# Altium schematic symbol library LABLIB.SchLib: 136 symbols (part 2 of 2)
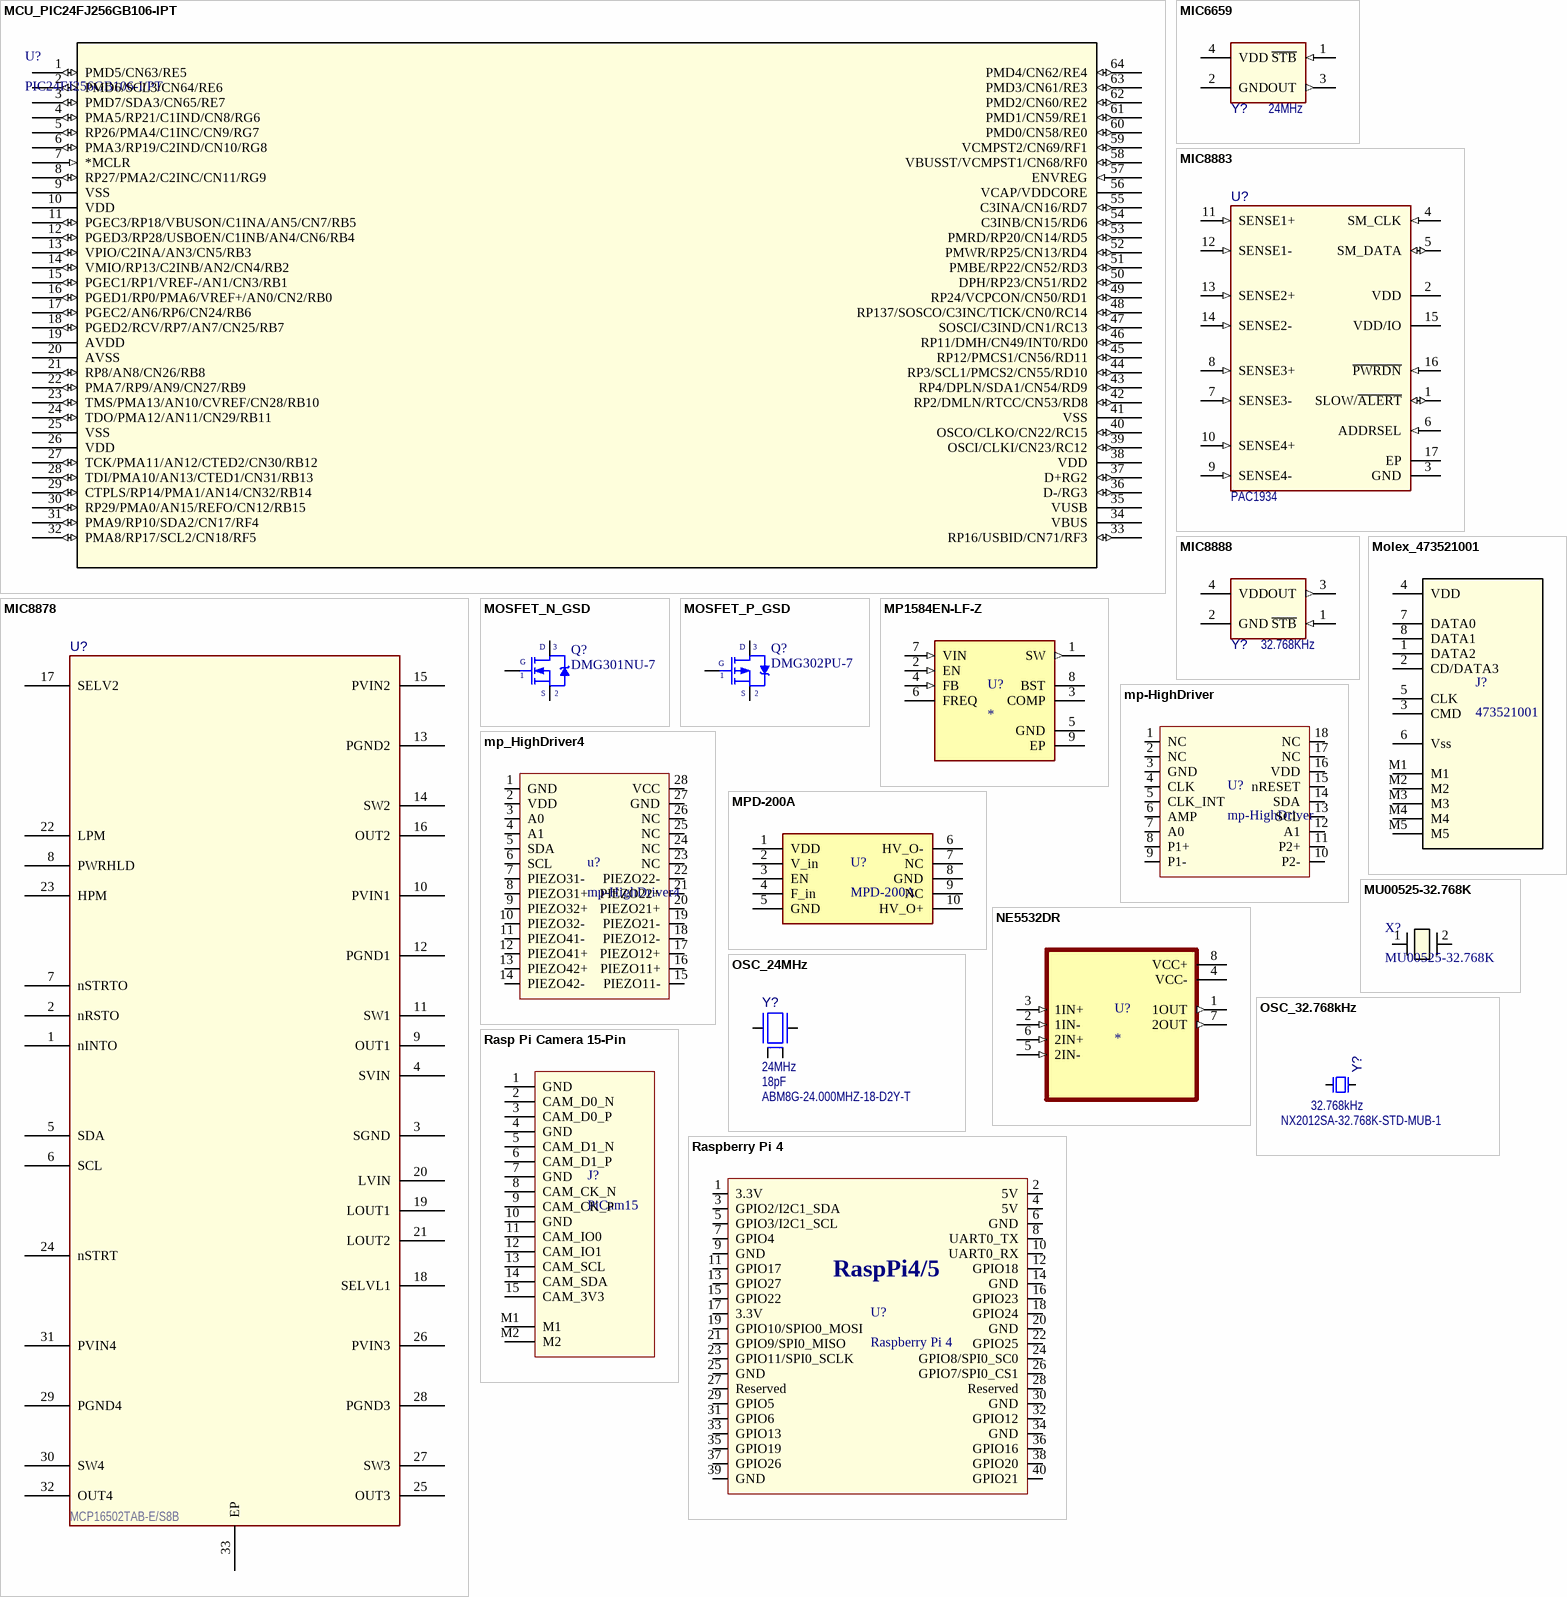
[diagram p9: symbols MCU_PIC24FJ256GB106-IPT to Raspberry Pi 4]

## MIC6659
designator Y?, comment value 24MHz  (hidden comment: DSC10xx DFN-4)
Manufacturer 1: Microchip Technology; Manufacturer Part Number 1: DSC1001DI5-024.0000T; MCHP-ID: MIC6659; Description_: MCHP CLOCK OSCILLATOR SINGLE 24MHz DSC1001DI5-024.0000 SMD-2520; Dev Tools Status: Design; Owner: Maurizio Gavardoni; Populated: YES; Revision: A; Symbol: DSC10xx DFN-4; Status: MCL Design; ComponentLink1Description: SVN Datasheet; ComponentLink2Description: Local Datasheet; ComponentLink3URL: C:\ALTIUM_WORK\00001_MCHP-CDB\Library\LibraryRefs\DSC10xx DFN-4.SchLib; ComponentLink3Description: Open Symbol; ComponentLink4URL: C:\ALTIUM_WORK\00001_MCHP-CDB\Library\Footprints\DFN-4_2.5x2.PcbLib; ComponentLink4Description: Open Footprint; ComponentLink5Description: Open Footprint 2; ComponentLink6Description: Open Footprint 3; ComponentLink7Description: Open Footprint 4; Category: MCHP-Clock/Timing; Type: Oscillator; Supplier 1: Digi-Key; Supplier Part Number 1: DSC1001DI5-024.0000T-ND; Quantity Override: 1
footprint DFN-4_2.5x2
pins: 1 ~{STB} (in), 2 GND (power), 3 OUT (out), 4 VDD (power)
2 alternate drawings of the same symbol

## MIC8878
designator U?, comment value MCP16502TAB-E/S8B  (hidden comment: MCP16502 QFN-32)
Manufacturer 1: Microchip Technology; Populated: YES; MCHP-ID: MIC8878; Description_: MCHP ANALOG PMIC SWITCHER Buck ADJ MCP16502TAB-E/S8B QFN-32 for SAMA7G5 MPU with LPDDR/DDR2/DDR3; Dev Tools Status: Design; Owner: Dragos Danaila; Symbol: MCP16502 QFN-32; Type: Switcher; Status: MCL Design; Revision: 1; Category: MCHP-Analog; ComponentLink1Description: SVN Datasheet; ComponentLink2Description: Local Datasheet; ComponentLink3URL: C:\ALTIUM_WORK\00001_MCHP-CDB\Library\LibraryRefs\MCP16502 QFN-32.SchLib; ComponentLink3Description: Open Symbol; ComponentLink4URL: C:\ALTIUM_WORK\00001_MCHP-CDB\Library\Footprints\QFN-32_5X5_EP3.7X3.7.PcbLib; ComponentLink4Description: Open Footprint; ComponentLink5Description: Open Footprint 2; ComponentLink6Description: Open Footprint 3; ComponentLink7Description: Open Footprint 4; Manufacturer Part Number 1: MCP16502TAB-E/S8B; Supplier 1: Digi-Key; Supplier Part Number 1: 150-MCP16502TAB-E/S8BCT-ND; Quantity Override: 1; ComponentLink2URL: C:\ALTIUM_WORK\00001_MCHP-CDB\Datasheets\MCP16502-High-Performance-PMIC-for-SAMA5DX-SAM9X6-MPUs-Data-Sheet-DS20006275B.pdf
footprint QFN-32_5X5_EP3.7X3.7
pins: 1 nINTO, 2 nRSTO, 3 SGND, 4 SVIN, 5 SDA, 6 SCL, 7 nSTRTO, 8 PWRHLD, 9 OUT1, 10 PVIN1, 11 SW1, 12 PGND1, 13 PGND2, 14 SW2, 15 PVIN2, 16 OUT2, 17 SELV2, 18 SELVL1, 19 LOUT1, 20 LVIN, 21 LOUT2, 22 LPM, 23 HPM, 24 nSTRT, 25 OUT3, 26 PVIN3, 27 SW3, 28 PGND3, 29 PGND4, 30 SW4, 31 PVIN4, 32 OUT4, 33 EP
1 alternate drawing of the same symbol

## MIC8883
designator U?, comment value PAC1934  (hidden comment: PAC1934 UQFN-16)
Manufacturer 1: Microchip Technology; Manufacturer Part Number 1: PAC1934T-I/JQ; MCHP-ID: MIC8883; Description_: MCHP ANALOG POWER CURRENT SENSE MONITOR PAC1934T-I/JQ UQFN-16; Dev Tools Status: Design; Owner: Ciprian Abramov; Populated: YES; Symbol: PAC1934 UQFN-16; Type: Power/Current Sensor; Status: MCL Design; Revision: 1; Category: MCHP-Analog; ComponentLink1Description: SVN Datasheet; ComponentLink2Description: Local Datasheet; ComponentLink3URL: C:\ALTIUM_WORK\00001_MCHP-CDB\Library\LibraryRefs\PAC1934 UQFN-16.SchLib; ComponentLink3Description: Open Symbol; ComponentLink4URL: C:\ALTIUM_WORK\00001_MCHP-CDB\Library\Footprints\UQFN-16_4X4_EP2.6X2.6.PcbLib; ComponentLink4Description: Open Footprint; ComponentLink5Description: Open Footprint 2; ComponentLink6Description: Open Footprint 3; ComponentLink7Description: Open Footprint 4; Supplier 1: Digi-Key; Supplier Part Number 1: PAC1934T-I/JQCT-ND; Quantity Override: 1
footprint UQFN-16_4X4_EP2.6X2.6
pins: 1 SLOW/~{ALERT} (io), 2 VDD (power), 3 GND (power), 4 SM_CLK (in), 5 SM_DATA (io), 6 ADDRSEL (in), 7 SENSE3- (in), 8 SENSE3+ (in), 9 SENSE4- (in), 10 SENSE4+ (in), 11 SENSE1+ (in), 12 SENSE1- (in), 13 SENSE2+ (in), 14 SENSE2- (in), 15 VDD/IO (power), 16 ~{PWRDN} (in), 17 EP
2 alternate drawings of the same symbol

## MIC8888
designator Y?, comment value 32.768KHz  (hidden comment: DSC60xx DFN-4_LGA-4)
Manufacturer 1: Microchip Technology; Manufacturer Part Number 1: DSC6003MA3B-032K768; MCHP-ID: MIC8888; Description_: MCHP CLOCK OSCILLATOR SINGLE 32.768KHz DSC6003MA3B-032K768 SMD DFN-4; Dev Tools Status: Design; Owner: Ciprian Abramov; Populated: DNP; Revision: 1; Symbol: DSC60xx DFN-4_LGA-4; Status: MCL Design; ComponentLink1Description: SVN Datasheet; ComponentLink2Description: Local Datasheet; ComponentLink3URL: C:\ALTIUM_WORK\00001_MCHP-CDB\Library\LibraryRefs\DSC60xx DFN-4_LGA-4.SchLib; ComponentLink3Description: Open Symbol; ComponentLink4URL: C:\ALTIUM_WORK\00001_MCHP-CDB\Library\Footprints\DFN-4_2x1.6.PcbLib; ComponentLink4Description: Open Footprint; ComponentLink5Description: Open Footprint 2; ComponentLink6Description: Open Footprint 3; ComponentLink7Description: Open Footprint 4; Category: MCHP-Clock/Timing; Type: Oscillator; Supplier 1: Digi-Key; Supplier Part Number 1: DSC6003MA3B-032K768-ND; Quantity Override: 1; Supplier 2: Mouser; Supplier Part Number 2: 579-6003MA3B032K768
footprint DFN-4_2x1.6
pins: 1 ~{STB} (in), 2 GND (power), 3 OUT (out), 4 VDD (power)
1 alternate drawing of the same symbol

## Molex_473521001
designator J?, comment 473521001
1.10mm Pitch microSD Card Connector, Push-Push Type, with VSS (Supply Voltage Ground) Detect Switch, Lead-Free; Manufacturer_Name: Molex Connector Corporation; Copyright: Copyright (C) 2025 Ultra Librarian. All rights reserved.; Manufacturer_Part_Number: 473521001; Datasheet: https://www.molex.com/en-us/products/part-detail-pdf/473521001?display=pdf; RefDes: RefDes; Type: Type
footprint CON00878_8_MOL
footprint Molex_0473521001
pins: 1 DATA2, 2 CD/DATA3, 3 CMD, 4 VDD, 5 CLK, 6 Vss, 7 DATA0, 8 DATA1, M1, M2, M3, M4, M5

## MOSFET_N_GSD
designator Q?, comment DMG301NU-7
footprint SOT95P240X120-3N
pins: 1 G, 2 S, 3 D

## MOSFET_P_GSD
designator Q?, comment DMG302PU-7
footprint TO252-123
footprint SOT23-3-123
footprint SOT95P240X120-3N
footprint SOT23-3-213
pins: 1 G, 2 S, 3 D

## MP1584EN-LF-Z
designator U?
Buck Switching Regulator IC Positive Adjustable 0.8V 1 Output 3A 8-SOIC (0.154, 3.90mm Width) Exposed Pad
footprint SOIC127P600X170-9N
pins: 1 SW (out), 2 EN (in), 3 COMP, 4 FB (in), 5 GND (power), 6 FREQ, 7 VIN (in), 8 BST, 9 EP (power)

## mp-HighDriver
designator U?
footprint MP_HIGHDRIVER
pins: 1 NC, 2 NC, 3 GND (power), 4 CLK, 5 CLK_INT, 6 AMP, 7 A0, 8 P1+, 9 P1-, 10 P2-, 11 P2+, 12 A1, 13 SCL, 14 SDA, 15 nRESET, 16 VDD (power), 17 NC, 18 NC

## mp_HighDriver4
designator u?, comment mp-HighDriver4
footprint MP_HIGHDRIVER4
pins: 1 GND (power), 2 VDD (power), 3 A0, 4 A1, 5 SDA, 6 SCL, 7 PIEZO31-, 8 PIEZO31+, 9 PIEZO32+, 10 PIEZO32-, 11 PIEZO41-, 12 PIEZO41+, 13 PIEZO42+, 14 PIEZO42-, 15 PIEZO11-, 16 PIEZO11+, 17 PIEZO12+, 18 PIEZO12-, 19 PIEZO21-, 20 PIEZO21+, 21 PIEZO22+, 22 PIEZO22-, 23 NC, 24 NC, 25 NC, 26 NC, 27 GND (power), 28 VCC (power)

## MPD-200A
designator U?
footprint MPD-200a
pins: 1 VDD, 2 V_in, 3 EN, 4 F_in, 5 GND, 6 HV_O-, 7 NC, 8 GND, 9 NC, 10 HV_O+

## MU00525-32.768K
designator X?
Description; Manufacturer_Name: NDK; Type: Crystals; Copyright: Copyright (C) 2025 Ultra Librarian. All rights reserved.; Manufacturer_Part_Number: MU00525-32.768K
footprint XTAL_MU00525_NDK
pins: 1, 2

## NE5532DR
designator U?
Dual, 30-V, 10-MHz, low-noise operational amplifier for audio applications
footprint SOIC127P599X175-8N
pins: 1 1OUT (out), 2 1IN- (in), 3 1IN+ (in), 4 VCC- (power), 5 2IN- (in), 6 2IN+ (in), 7 2OUT (out), 8 VCC+ (power)

## OSC_24MHz
designator Y?, comment value 24MHz  Load Capacitance: 18pF  Manufacturer Part Number 1: ABM8G-24.000MHZ-18-D2Y-T  (hidden comment: Crystal 4 Pins)
Crystal; Manufacturer 1: Abracon Corporation; MCHP-ID: OSC1047; Description_: CRYSTAL 24MHz 18pF SMD ABM8G; Dev Tools Status: Production; Owner: Mark Loper; Populated: DNP; Revision: 1; Symbol: Crystal 4 Pins; Status: MCL Design; ComponentLink1URL: https://chn-vm-apps.microchip.com/mchprepo/parts/Datasheets/ABM8G.pdf; ComponentLink1Description: SVN Datasheet; ComponentLink2URL: C:\ALTIUM_WORK\00001_MCHP-CDB\Datasheets\ABM8G.pdf; ComponentLink2Description: Local Datasheet; ComponentLink3URL: C:\ALTIUM_WORK\00001_MCHP-CDB\Library\LibraryRefs\Crystal 4 Pins.SchLib; ComponentLink3Description: Open Symbol; ComponentLink4URL: C:\ALTIUM_WORK\00001_MCHP-CDB\Library\Footprints\CRYSTAL_ABM8G.PcbLib; ComponentLink4Description: Open Footprint; ComponentLink5Description: Open Footprint 2; ComponentLink6Description: Open Footprint 3; ComponentLink7Description: Open Footprint 4; Package: ABM8G; Type: Crystal; Category: Crystal/Oscillator; Supplier 1: Digi-Key; Supplier Part Number 1: 535-10273-1-ND; Quantity Override: 1
footprint CRYSTAL_ABM8G
pins: 1 Osc1, 2 GND (power), 3 Osc2, 4 GND (power)

## OSC_32.768kHz
designator Y?, comment value 32.768kHz  Manufacturer Part Number 1: NX2012SA-32.768K-STD-MUB-1  (hidden comment: Crystal 2 Pins)
Crystal; Manufacturer 1: NDK; MCHP-ID: OSC1092; Description_: CRYSTAL 32.768kHz 12.5pF SMD NX2012SA; Dev Tools Status: Production; Owner: Jamus Griego; Tolerance: ±20ppm; Load Capacitance: 12.5pF; Populated: YES; Revision: 1; Symbol: Crystal 2 Pins; Status: MCL Design; ComponentLink1URL: https://chn-vm-apps.microchip.com/mchprepo/parts/Datasheets/c_NX2012SA-STD-MUB-1_e.pdf; ComponentLink1Description: SVN Datasheet; ComponentLink2URL: C:\ALTIUM_WORK\00001_MCHP-CDB\Datasheets\c_NX2012SA-STD-MUB-1_e.pdf; ComponentLink2Description: Local Datasheet; ComponentLink3URL: C:\ALTIUM_WORK\00001_MCHP-CDB\Library\LibraryRefs\Crystal 2 Pins.SchLib; ComponentLink3Description: Open Symbol; ComponentLink4URL: C:\ALTIUM_WORK\00001_MCHP-CDB\Library\Footprints\CRYSTAL_NX2012SA.PcbLib; ComponentLink4Description: Open Footprint; ComponentLink5Description: Open Footprint 2; ComponentLink6Description: Open Footprint 3; ComponentLink7Description: Open Footprint 4; Type: Crystal; Category: Crystal/Oscillator; Supplier 1: Digi-Key; Supplier Part Number 1: 644-1219-1-ND; Quantity Override: 1
footprint CRYSTAL_NX2012SA
pins: 1 Osc1, 2 Osc2

## Rasp Pi Camera 15-Pin
designator J?, comment PiCam15
Rasp Pi Camera 15-Pin
pins: 1 GND, 2 CAM_D0_N, 3 CAM_D0_P, 4 GND, 5 CAM_D1_N, 6 CAM_D1_P, 7 GND, 8 CAM_CK_N, 9 CAM_CK_P, 10 GND, 11 CAM_IO0, 12 CAM_IO1, 13 CAM_SCL, 14 CAM_SDA, 15 CAM_3V3, M1, M2

## Raspberry Pi 4
designator U?
footprint Raspberry Pi 4 (Raspberry Pi 4 header)
pins: 1 3.3V (power), 2 5V (power), 3 GPIO2/I2C1_SDA, 4 5V (power), 5 GPIO3/I2C1_SCL, 6 GND (power), 7 GPIO4, 8 UART0_TX, 9 GND (power), 10 UART0_RX, 11 GPIO17, 12 GPIO18, 13 GPIO27, 14 GND (power), 15 GPIO22, 16 GPIO23, 17 3.3V (power), 18 GPIO24, 19 GPIO10/SPIO0_MOSI, 20 GND (power), 21 GPIO9/SPI0_MISO, 22 GPIO25, 23 GPIO11/SPI0_SCLK, 24 GPIO8/SPI0_SC0, 25 GND (power), 26 GPIO7/SPI0_CS1, 27 Reserved, 28 Reserved, 29 GPIO5, 30 GND (power), 31 GPIO6, 32 GPIO12, 33 GPIO13, 34 GND (power), 35 GPIO19, 36 GPIO16, 37 GPIO26, 38 GPIO20, 39 GND (power), 40 GPIO21
text: RaspPi4/5

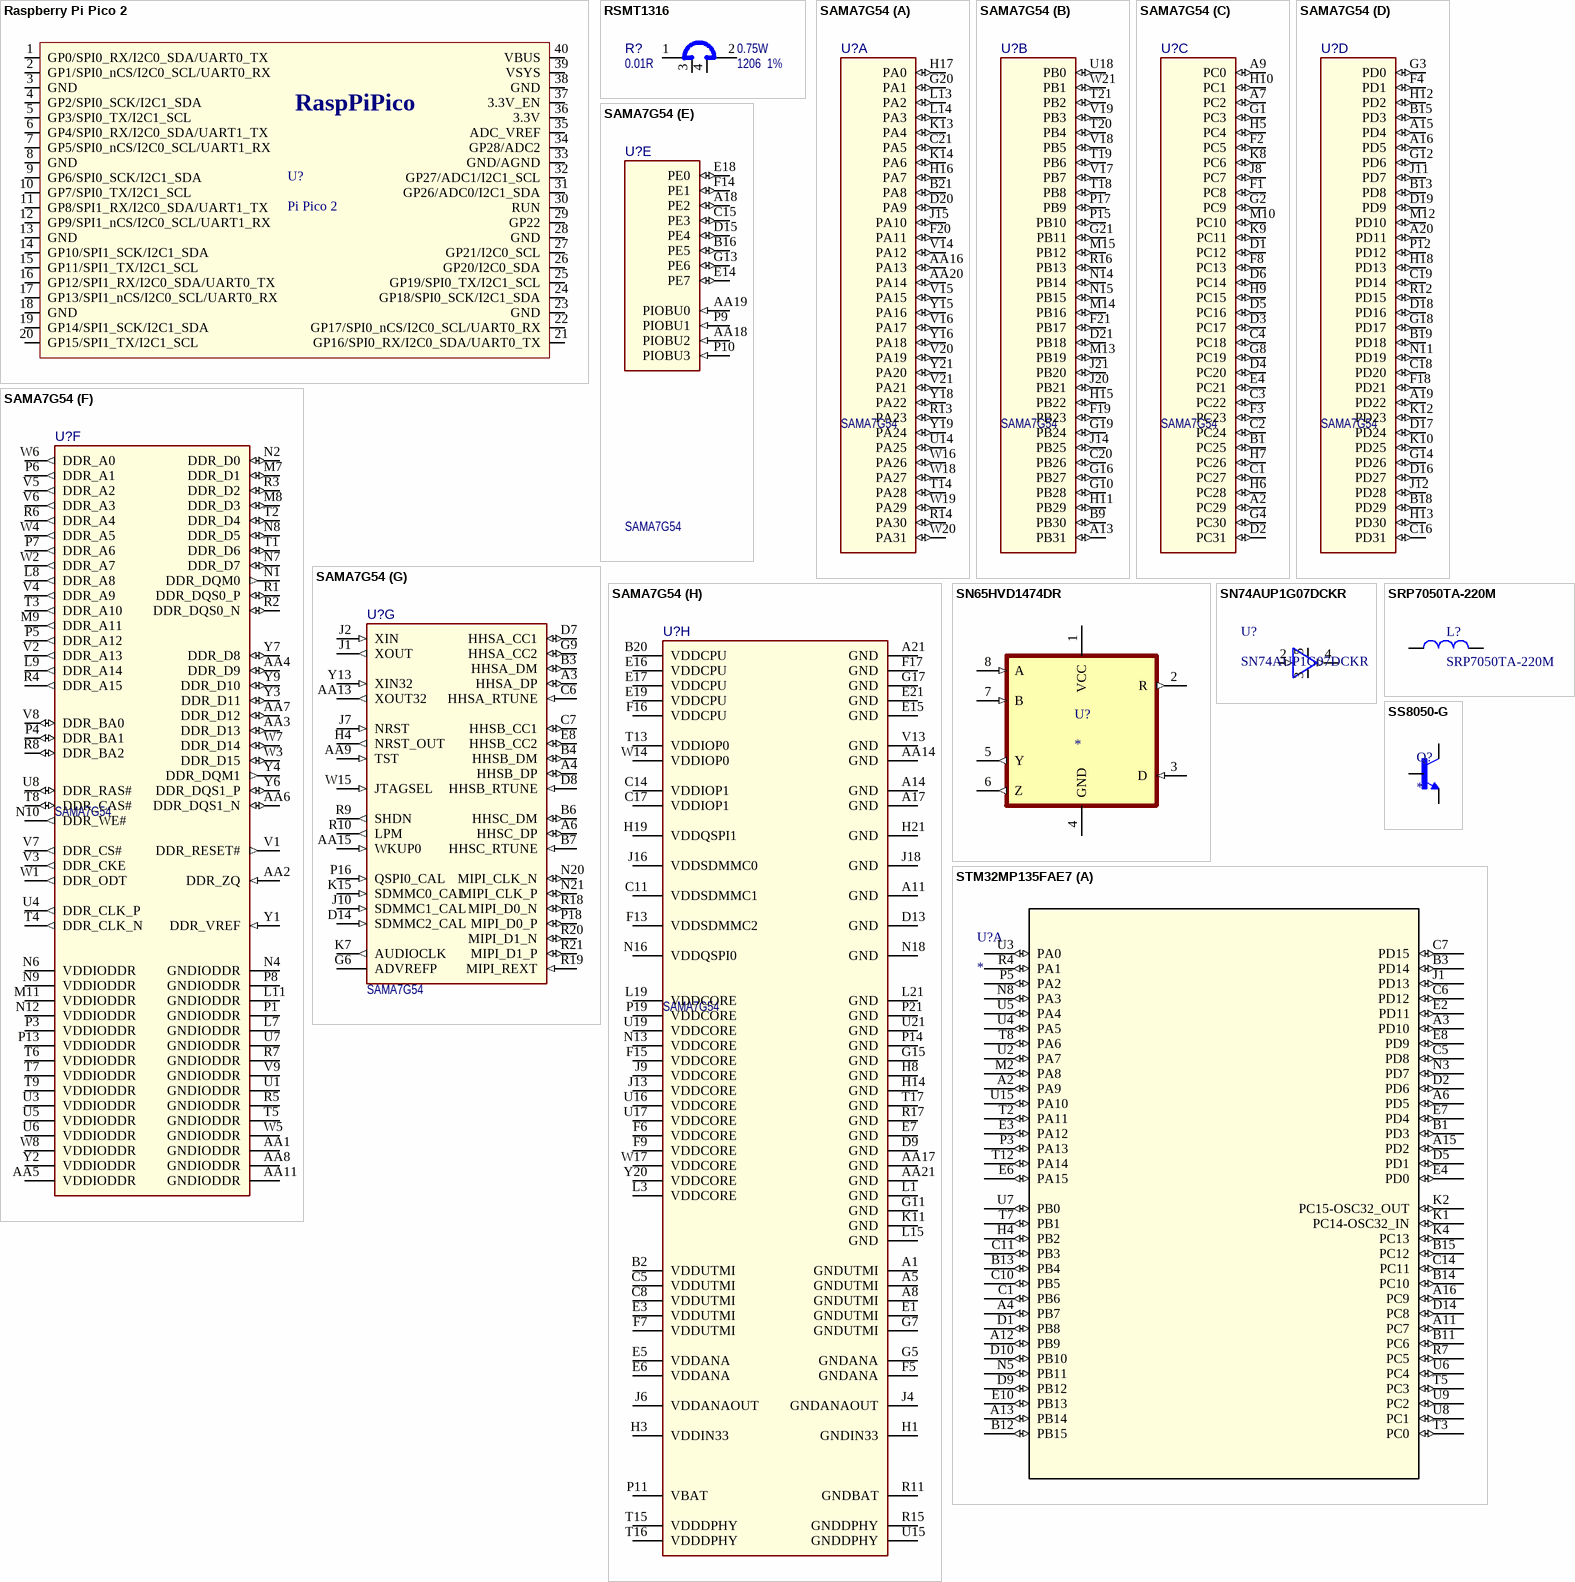
[diagram p6: symbols Raspberry Pi Pico 2 to STM32MP135FAE7]

## Raspberry Pi Pico 2
designator U?, comment Pi Pico 2
footprint Pi Pico 2
pins: 1 GP0/SPI0_RX/I2C0_SDA/UART0_TX, 2 GP1/SPI0_nCS/I2C0_SCL/UART0_RX, 3 GND (power), 4 GP2/SPI0_SCK/I2C1_SDA, 5 GP3/SPI0_TX/I2C1_SCL, 6 GP4/SPI0_RX/I2C0_SDA/UART1_TX, 7 GP5/SPI0_nCS/I2C0_SCL/UART1_RX, 8 GND (power), 9 GP6/SPI0_SCK/I2C1_SDA, 10 GP7/SPI0_TX/I2C1_SCL, 11 GP8/SPI1_RX/I2C0_SDA/UART1_TX, 12 GP9/SPI1_nCS/I2C0_SCL/UART1_RX, 13 GND (power), 14 GP10/SPI1_SCK/I2C1_SDA, 15 GP11/SPI1_TX/I2C1_SCL, 16 GP12/SPI1_RX/I2C0_SDA/UART0_TX, 17 GP13/SPI1_nCS/I2C0_SCL/UART0_RX, 18 GND (power), 19 GP14/SPI1_SCK/I2C1_SDA, 20 GP15/SPI1_TX/I2C1_SCL, 21 GP16/SPI0_RX/I2C0_SDA/UART0_TX, 22 GP17/SPI0_nCS/I2C0_SCL/UART0_RX, 23 GND (power), 24 GP18/SPI0_SCK/I2C1_SDA, 25 GP19/SPI0_TX/I2C1_SCL, 26 GP20/I2C0_SDA, 27 GP21/I2C0_SCL, 28 GND (power), 29 GP22, 30 RUN, 31 GP26/ADC0/I2C1_SDA, 32 GP27/ADC1/I2C1_SCL, 33 GND/AGND (power), 34 GP28/ADC2, 35 ADC_VREF (power), 36 3.3V (power), 37 3.3V_EN (power), 38 GND (power), 39 VSYS, 40 VBUS (power)
text: RaspPiPico

## RSMT1316
designator R?, comment value 0.01R  Package: 1206  Tolerance: 1%  Power: 0.75W  (hidden comment: Shunt 4 Pin)
Shunt; Manufacturer 1: SUSUMU; Manufacturer Part Number 1: KRL1632E-M-R010-F-T5; MCHP-ID: RSMT1316; Description_: RES SHUNT MF 0.01R 1% 0.75W SMD 1206; Dev Tools Status: Design; Temperature Coeffcient: 50ppm/C; Current: 8A; Owner: Ciprian Abramov; Populated: YES; Revision: 1; Symbol: Shunt 4 Pin; Status: MCL Design; ComponentLink1URL: https://chn-vm-apps.microchip.com/mchprepo/parts/Datasheets/n_catalog_partition09_en.pdf; ComponentLink1Description: SVN Datasheet; ComponentLink2URL: C:\ALTIUM_WORK\00001_MCHP-CDB\Datasheets\n_catalog_partition09_en.pdf; ComponentLink2Description: Local Datasheet; ComponentLink3URL: C:\ALTIUM_WORK\00001_MCHP-CDB\Library\LibraryRefs\Shunt 4 Pin.SchLib; ComponentLink3Description: Open Symbol; ComponentLink4URL: C:\ALTIUM_WORK\00001_MCHP-CDB\Library\Footprints\RES_C_1206_SHUNT.PcbLib; ComponentLink4Description: Open Footprint; ComponentLink5Description: Open Footprint 2; ComponentLink6Description: Open Footprint 3; ComponentLink7Description: Open Footprint 4; Operating Temperature: -55C to +155C; Category: Resistor; Type: RES SMD; Composition: MF; Supplier 1: Digi-Key; Supplier Part Number 1: 408-1570-1-ND; Quantity Override: 1
footprint RES_C_1206_SHUNT
pins: 1, 2, 3, 4

## SAMA7G54
designator U?
SAMA7G54 MPU 1000MHz Cortex-A7 TFBGA-343; Manufacturer Part Number 1: SAMA7G54-V/4HB; Manufacturer 1: Microchip; Description_: MCHP MPU 32-BIT Cortex-A7 1000MHz 128kB SAMA7G54-V/4HB TFBGA-343; Populated: YES; MCHP-ID: MIC8923; Symbol: SAMA7G54 TFBGA-343; Dev Tools Status: Design; Owner: Ciprian Abramov; Package: TFBGA-343; Type: 32-Bit MPU; Status: MCL Design; Revision: 1; Category: MCHP-Microcontroller; ComponentLink1Description: SVN Datasheet; ComponentLink2Description: Local Datasheet; ComponentLink3URL: C:\ALTIUM_WORK\00001_MCHP-CDB\Library\LibraryRefs\SAMA7G54 TFBGA-343.SchLib; ComponentLink3Description: Open Symbol; ComponentLink4URL: C:\ALTIUM_WORK\00001_MCHP-CDB\Library\Footprints\TFBGA-343_14x14.PcbLib; ComponentLink4Description: Open Footprint; ComponentLink5Description: Open Footprint 2; ComponentLink6Description: Open Footprint 3; ComponentLink7Description: Open Footprint 4; Supplier 1: Microchip; Supplier Part Number 1: SAMA7G54-V/4HB; Quantity Override: 1; Value: SAMA7G54
footprint TFBGA-343_14x14
part A pins: AA16 PA13 (io), AA20 PA14 (io), B21 PA8 (io), C21 PA5 (io), D20 PA9 (io), F20 PA11 (io), G20 PA1 (io), H16 PA7 (io), H17 PA0 (io), J15 PA10 (io), K13 PA4 (io), K14 PA6 (io), L13 PA2 (io), L14 PA3 (io), R13 PA23 (io), R14 PA30 (io), T14 PA28 (io), U14 PA25 (io), V14 PA12 (io), V15 PA15 (io), V16 PA17 (io), V20 PA19 (io), V21 PA21 (io), W16 PA26 (io), W18 PA27 (io), W19 PA29 (io), W20 PA31 (io), Y15 PA16 (io), Y16 PA18 (io), Y18 PA22 (io), Y19 PA24 (io), Y21 PA20 (io)
part B pins: A13 PB31 (io), B9 PB30 (io), C20 PB26 (io), D21 PB18 (io), F19 PB23 (io), F21 PB17 (io), G10 PB28 (io), G16 PB27 (io), G19 PB24 (io), G21 PB11 (io), H11 PB29 (io), H15 PB22 (io), J14 PB25 (io), J20 PB21 (io), J21 PB20 (io), M13 PB19 (io), M14 PB16 (io), M15 PB12 (io), N14 PB14 (io), N15 PB15 (io), P15 PB10 (io), P17 PB9 (io), R16 PB13 (io), T18 PB8 (io), T19 PB6 (io), T20 PB4 (io), T21 PB2 (io), U18 PB0 (io), V17 PB7 (io), V18 PB5 (io), V19 PB3 (io), W21 PB1 (io)
part C pins: A2 PC29 (io), A7 PC2 (io), A9 PC0 (io), B1 PC25 (io), C1 PC27 (io), C2 PC24 (io), C3 PC22 (io), C4 PC18 (io), D1 PC12 (io), D2 PC31 (io), D3 PC17 (io), D4 PC20 (io), D5 PC16 (io), D6 PC14 (io), E4 PC21 (io), F1 PC8 (io), F2 PC5 (io), F3 PC23 (io), F8 PC13 (io), G1 PC3 (io), G2 PC9 (io), G4 PC30 (io), G8 PC19 (io), H5 PC4 (io), H6 PC28 (io), H7 PC26 (io), H9 PC15 (io), H10 PC1 (io), J8 PC7 (io), K8 PC6 (io), K9 PC11 (io), M10 PC10 (io)
part D pins: A15 PD4 (io), A16 PD5 (io), A19 PD22 (io), A20 PD11 (io), B13 PD8 (io), B15 PD3 (io), B18 PD29 (io), B19 PD18 (io), C16 PD31 (io), C18 PD20 (io), C19 PD14 (io), D16 PD27 (io), D17 PD24 (io), D18 PD16 (io), D19 PD9 (io), F4 PD1 (io), F18 PD21 (io), G3 PD0 (io), G12 PD6 (io), G14 PD26 (io), G18 PD17 (io), H12 PD2 (io), H13 PD30 (io), H18 PD13 (io), J11 PD7 (io), J12 PD28 (io), K10 PD25 (io), K12 PD23 (io), M12 PD10 (io), N11 PD19 (io), P12 PD12 (io), R12 PD15 (io)
part E pins: A18 PE2 (io), AA18 PIOBU2 (in), AA19 PIOBU0 (in), B16 PE5 (io), C15 PE3 (io), D15 PE4 (io), E14 PE7 (io), E18 PE0 (io), F14 PE1 (io), G13 PE6 (io), P9 PIOBU1 (in), P10 PIOBU3 (in)
part F pins: AA1 GNDIODDR (power), AA2 DDR_ZQ (in), AA3 DDR_D13 (io), AA4 DDR_D9 (io), AA5 VDDIODDR (power), AA6 DDR_DQS1_N (io), AA7 DDR_D12 (io), AA8 GNDIODDR (power), AA11 GNDIODDR (power), L7 GNDIODDR (power), L8 DDR_A8 (out), L9 DDR_A14 (out), L11 GNDIODDR (power), M7 DDR_D1 (io), M8 DDR_D3 (io), M9 DDR_A11 (out), M11 VDDIODDR (power), N1 DDR_DQM0 (out), N2 DDR_D0 (io), N4 GNDIODDR (power), N6 VDDIODDR (power), N7 DDR_D7 (io), N8 DDR_D5 (io), N9 VDDIODDR (power), N10 DDR_WE# (out), N12 VDDIODDR (power), P1 GNDIODDR (power), P3 VDDIODDR (power), P4 DDR_BA1 (io), P5 DDR_A12 (out), P6 DDR_A1 (out), P7 DDR_A6 (out), P8 GNDIODDR (power), P13 VDDIODDR (power), R1 DDR_DQS0_P (io), R2 DDR_DQS0_N (io), R3 DDR_D2 (io), R4 DDR_A15 (out), R5 GNDIODDR (power), R6 DDR_A4 (out), R7 GNDIODDR (power), R8 DDR_BA2 (io), T1 DDR_D6 (io), T2 DDR_D4 (io), T3 DDR_A10 (out), T4 DDR_CLK_N (out), T5 GNDIODDR (power), T6 VDDIODDR (power), T7 VDDIODDR (power), T8 DDR_CAS# (io), T9 VDDIODDR (power), U1 GNDIODDR (power), U3 VDDIODDR (power), U4 DDR_CLK_P (out), U5 VDDIODDR (power), U6 VDDIODDR (power), U7 GNDIODDR (power), U8 DDR_RAS# (io), V1 DDR_RESET# (out), V2 DDR_A13 (out), V3 DDR_CKE (out), V4 DDR_A9 (out), V5 DDR_A2 (out), V6 DDR_A3 (out), V7 DDR_CS# (out), V8 DDR_BA0 (io), V9 GNDIODDR (power), W1 DDR_ODT (out), W2 DDR_A7 (out), W3 DDR_D15 (io), W4 DDR_A5 (out), W5 GNDIODDR (power), W6 DDR_A0 (out), W7 DDR_D14 (io), W8 VDDIODDR (power), Y1 DDR_VREF (in), Y2 VDDIODDR (power), Y3 DDR_D11 (io), Y4 DDR_DQM1 (out), Y6 DDR_DQS1_P (io), Y7 DDR_D8 (io), Y9 DDR_D10 (io)
part G pins: A3 HHSA_DP (io), A4 HHSB_DP (io), A6 HHSC_DP (io), AA9 TST (in), AA13 XOUT32 (out), AA15 WKUP0 (in), B3 HHSA_DM (io), B4 HHSB_DM (io), B6 HHSC_DM (io), B7 HHSC_RTUNE (in), C6 HHSA_RTUNE (in), C7 HHSB_CC1 (io), D7 HHSA_CC1 (io), D8 HHSB_RTUNE (in), D14 SDMMC2_CAL (in), E8 HHSB_CC2 (io), G6 ADVREFP (power), G9 HHSA_CC2 (io), H4 NRST_OUT (out), J1 XOUT (out), J2 XIN (in), J7 NRST (in), J10 SDMMC1_CAL (in), K7 AUDIOCLK (out), K15 SDMMC0_CAL (in), N20 MIPI_CLK_N (io), N21 MIPI_CLK_P (io), P16 QSPI0_CAL (in), P18 MIPI_D0_P (io), R9 SHDN (out), R10 LPM (out), R18 MIPI_D0_N (io), R19 MIPI_REXT (in), R20 MIPI_D1_N (io), R21 MIPI_D1_P (io), W15 JTAGSEL (in), Y13 XIN32 (in)
part H pins: A1 GNDUTMI (power), A5 GNDUTMI (power), A8 GNDUTMI (power), A11 GND (power), A14 GND (power), A17 GND (power), A21 GND (power), AA14 GND (power), AA17 GND (power), AA21 GND (power), B2 VDDUTMI (power), B20 VDDCPU (power), C5 VDDUTMI (power), C8 VDDUTMI (power), C11 VDDSDMMC1 (power), C14 VDDIOP1 (power), C17 VDDIOP1 (power), D9 GND (power), D13 GND (power), E1 GNDUTMI (power), E3 VDDUTMI (power), E5 VDDANA (power), E6 VDDANA (power), E7 GND (power), E15 GND (power), E16 VDDCPU (power), E17 VDDCPU (power), E19 VDDCPU (power), E21 GND (power), F5 GNDANA (power), F6 VDDCORE (power), F7 VDDUTMI (power), F9 VDDCORE (power), F13 VDDSDMMC2 (power), F15 VDDCORE (power), F16 VDDCPU (power), F17 GND (power), G5 GNDANA (power), G7 GNDUTMI (power), G11 GND (power), G15 GND (power), G17 GND (power), H1 GNDIN33 (power), H3 VDDIN33 (power), H8 GND (power), H14 GND (power), H19 VDDQSPI1 (power), H21 GND (power), J4 GNDANAOUT (power), J6 VDDANAOUT (power), J9 VDDCORE (power), J13 VDDCORE (power), J16 VDDSDMMC0 (power), J18 GND (power), K11 GND (power), L1 GND (power), L3 VDDCORE (power), L15 GND (power), L19 VDDCORE (power), L21 GND (power), N13 VDDCORE (power), N16 VDDQSPI0 (power), N18 GND (power), P11 VBAT (power), P14 GND (power), P19 VDDCORE (power), P21 GND (power), R11 GNDBAT (power), R15 GNDDPHY (power), R17 GND (power), T13 VDDIOP0 (power), T15 VDDDPHY (power), T16 VDDDPHY (power), T17 GND (power), U15 GNDDPHY (power), U16 VDDCORE (power), U17 VDDCORE (power), U19 VDDCORE (power), U21 GND (power), V13 GND (power), W14 VDDIOP0 (power), W17 VDDCORE (power), Y20 VDDCORE (power)

## SN65HVD1474DR
designator U?
3.3V, Full-Duplex RS-485, 16kV IEC ESD, 20Mbps data rate, No Enables; MF: Texas Instruments; MP: SN65HVD1474DR; SnapEDA_Link: https://www.snapeda.com/parts/SN65HVD1474DR/Texas+Instruments/view-part/?ref=snap; Package: SOIC-8 Texas Instruments; Value: *; Check_prices: https://www.snapeda.com/parts/SN65HVD1474DR/Texas+Instruments/view-part/?ref=eda
footprint SOIC127P599X175-8N
pins: 1 VCC (power), 2 R (out), 3 D (in), 4 GND (power), 5 Y (out), 6 Z (out), 7 B (in), 8 A (in)

## SN74AUP1G07DCKR
designator U?
Single 0.8-V to 3.6-V low power buffer with open-drain outputs 5-SC70 -40 to 85; Manufacturer_Name: Texas Instruments; Copyright: Copyright (C) 2025 Ultra Librarian. All rights reserved.; Manufacturer_Part_Number: SN74AUP1G07DCKR; Datasheet: https://www.ti.com/lit/gpn/sn74aup1g07; RefDes: RefDes; Type: Type
footprint DCK5
pins: 2 A (in), 3 GND (power), 4 Y (out), 5 VCC (power)

## SRP7050TA-220M
designator L?
FIXED IND 22UH 2.5A 170 MOHM SMD
footprint PSM6050
pins: 1, 2

## SS8050-G
designator Q?
Bipolar (BJT) Transistor NPN 25 V 1.5 A 100MHz 300 mW Surface Mount SOT-23-3
footprint SOT-23-3
pins: 1 B, 2 E, 3 C

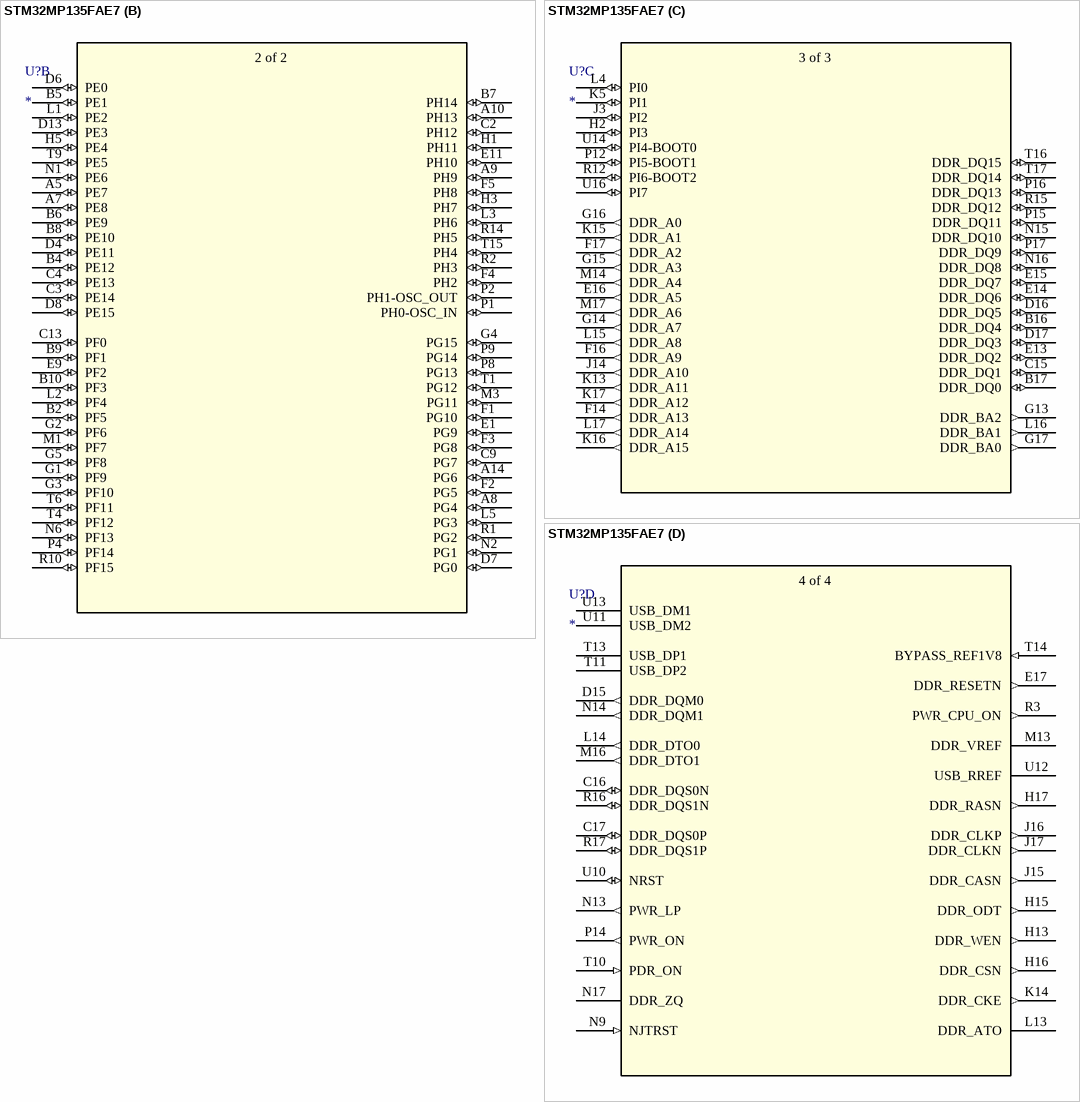
[diagram p7: symbol STM32MP135FAE7]

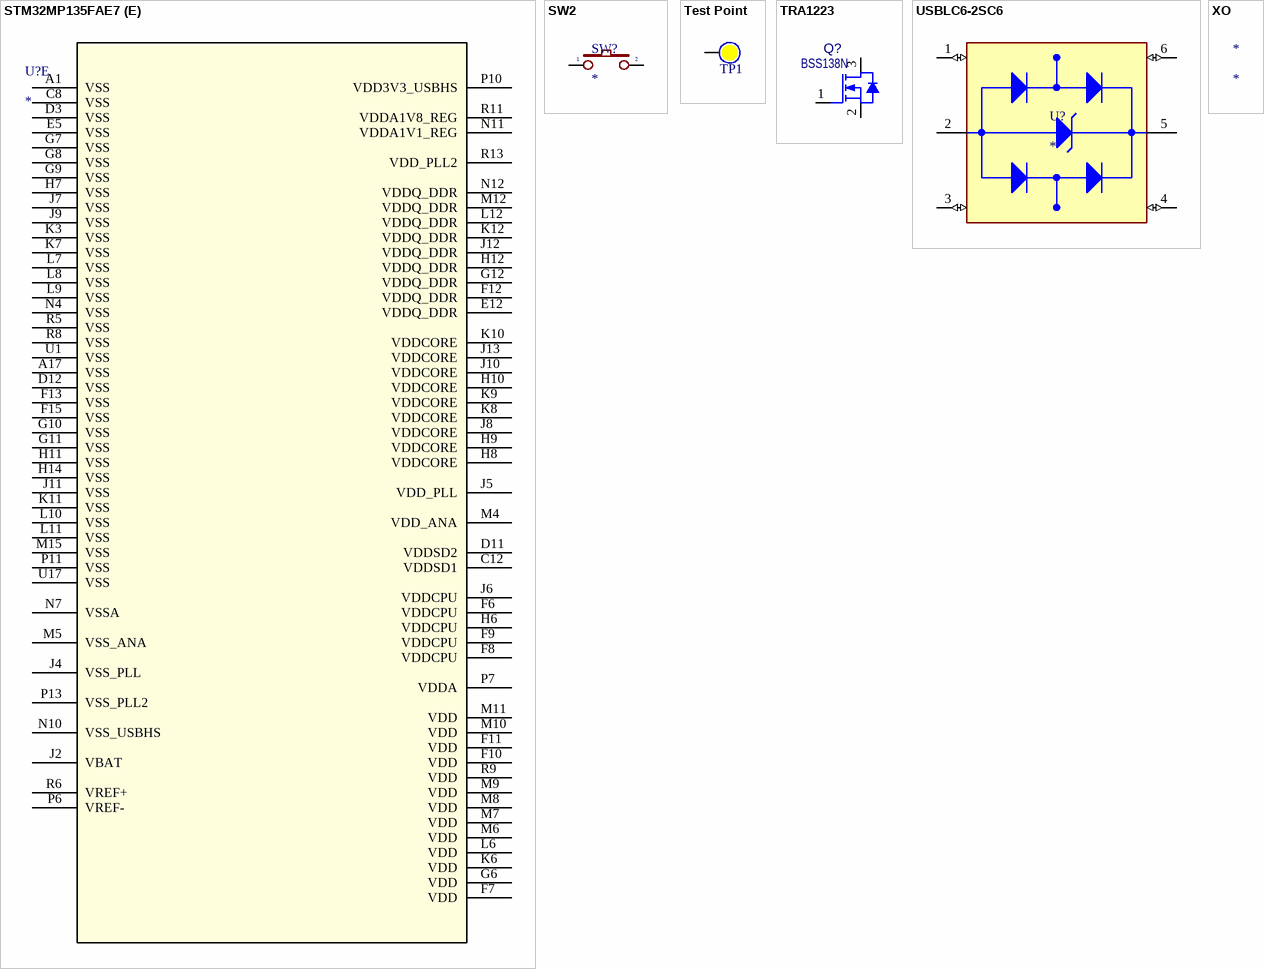
[diagram p8: symbols STM32MP135FAE7 to XO]

## STM32MP135FAE7
designator U?
No Description Available; Mfr_Name: STMicroelectronics; RefDes: RefDes; Type: Type
footprint LFBGA289_14X14_STM
part A pins: A2 PA9 (io), A3 PD10 (io), A4 PB7 (io), A6 PD5 (io), A11 PC7 (io), A12 PB9 (io), A13 PB14 (io), A15 PD2 (io), A16 PC9 (io), B1 PD3 (io), B3 PD14 (io), B11 PC6 (io), B12 PB15 (io), B13 PB4 (io), B14 PC10 (io), B15 PC12 (io), C1 PB6 (io), C5 PD8 (io), C6 PD12 (io), C7 PD15 (io), C10 PB5 (io), C11 PB3 (io), C14 PC11 (io), D1 PB8 (io), D2 PD6 (io), D5 PD1 (io), D9 PB12 (io), D10 PB10 (io), D14 PC8 (io), E2 PD11 (io), E3 PA12 (io), E4 PD0 (io), E6 PA15 (io), E7 PD4 (io), E8 PD9 (io), E10 PB13 (io), H4 PB2 (io), J1 PD13 (io), K1 PC14-OSC32_IN (io), K2 PC15-OSC32_OUT (io), K4 PC13 (io), M2 PA8 (io), N3 PD7 (io), N5 PB11 (io), N8 PA3 (io), P3 PA13 (io), P5 PA2 (io), R4 PA1 (io), R7 PC5 (io), T2 PA11 (io), T3 PC0 (io), T5 PC3 (io), T7 PB1 (io), T8 PA6 (io), T12 PA14 (io), U2 PA7 (io), U3 PA0 (io), U4 PA5 (io), U5 PA4 (io), U6 PC4 (io), U7 PB0 (io), U8 PC1 (io), U9 PC2 (io), U15 PA10 (io)
part B pins: A5 PE7 (io), A7 PE8 (io), A8 PG4 (io), A9 PH9 (io), A10 PH13 (io), A14 PG6 (io), B2 PF5 (io), B4 PE12 (io), B5 PE1 (io), B6 PE9 (io), B7 PH14 (io), B8 PE10 (io), B9 PF1 (io), B10 PF3 (io), C2 PH12 (io), C3 PE14 (io), C4 PE13 (io), C9 PG7 (io), C13 PF0 (io), D4 PE11 (io), D6 PE0 (io), D7 PG0 (io), D8 PE15 (io), D13 PE3 (io), E1 PG9 (io), E9 PF2 (io), E11 PH10 (io), F1 PG10 (io), F2 PG5 (io), F3 PG8 (io), F4 PH2 (io), F5 PH8 (io), G1 PF9 (io), G2 PF6 (io), G3 PF10 (io), G4 PG15 (io), G5 PF8 (io), H1 PH11 (io), H3 PH7 (io), H5 PE4 (io), L1 PE2 (io), L2 PF4 (io), L3 PH6 (io), L5 PG3 (io), M1 PF7 (io), M3 PG11 (io), N1 PE6 (io), N2 PG1 (io), N6 PF13 (io), P1 PH0-OSC_IN (io), P2 PH1-OSC_OUT (io), P4 PF14 (io), P8 PG13 (io), P9 PG14 (io), R1 PG2 (io), R2 PH3 (io), R10 PF15 (io), R14 PH5 (io), T1 PG12 (io), T4 PF12 (io), T6 PF11 (io), T9 PE5 (io), T15 PH4 (io)
part C pins: B16 DDR_DQ4 (io), B17 DDR_DQ0 (io), C15 DDR_DQ1 (io), D16 DDR_DQ5 (io), D17 DDR_DQ3 (io), E13 DDR_DQ2 (io), E14 DDR_DQ6 (io), E15 DDR_DQ7 (io), E16 DDR_A5 (out), F14 DDR_A13 (out), F16 DDR_A9 (out), F17 DDR_A2 (out), G13 DDR_BA2 (out), G14 DDR_A7 (out), G15 DDR_A3 (out), G16 DDR_A0 (out), G17 DDR_BA0 (out), H2 PI3 (io), J3 PI2 (io), J14 DDR_A10 (out), K5 PI1 (io), K13 DDR_A11 (out), K15 DDR_A1 (out), K16 DDR_A15 (out), K17 DDR_A12 (out), L4 PI0 (io), L15 DDR_A8 (out), L16 DDR_BA1 (out), L17 DDR_A14 (out), M14 DDR_A4 (out), M17 DDR_A6 (out), N15 DDR_DQ10 (io), N16 DDR_DQ8 (io), P12 PI5-BOOT1 (io), P15 DDR_DQ11 (io), P16 DDR_DQ13 (io), P17 DDR_DQ9 (io), R12 PI6-BOOT2 (io), R15 DDR_DQ12 (io), T16 DDR_DQ15 (io), T17 DDR_DQ14 (io), U14 PI4-BOOT0 (io), U16 PI7 (io)
part D pins: C16 DDR_DQS0N (io), C17 DDR_DQS0P (io), D15 DDR_DQM0 (out), E17 DDR_RESETN (out), H13 DDR_WEN (out), H15 DDR_ODT (out), H16 DDR_CSN (out), H17 DDR_RASN (out), J15 DDR_CASN (out), J16 DDR_CLKP (out), J17 DDR_CLKN (out), K14 DDR_CKE (out), L13 DDR_ATO, L14 DDR_DTO0 (out), M13 DDR_VREF (power), M16 DDR_DTO1 (out), N9 NJTRST (in), N13 PWR_LP (out), N14 DDR_DQM1 (out), N17 DDR_ZQ, P14 PWR_ON (out), R3 PWR_CPU_ON (out), R16 DDR_DQS1N (io), R17 DDR_DQS1P (io), T10 PDR_ON (in), T11 USB_DP2, T13 USB_DP1, T14 BYPASS_REF1V8 (in), U10 NRST (io), U11 USB_DM2, U12 USB_RREF, U13 USB_DM1
part E pins: A1 VSS (power), A17 VSS (power), C8 VSS (power), C12 VDDSD1 (power), D3 VSS (power), D11 VDDSD2 (power), D12 VSS (power), E5 VSS (power), E12 VDDQ_DDR (power), F6 VDDCPU (power), F7 VDD (power), F8 VDDCPU (power), F9 VDDCPU (power), F10 VDD (power), F11 VDD (power), F12 VDDQ_DDR (power), F13 VSS (power), F15 VSS (power), G6 VDD (power), G7 VSS (power), G8 VSS (power), G9 VSS (power), G10 VSS (power), G11 VSS (power), G12 VDDQ_DDR (power), H6 VDDCPU (power), H7 VSS (power), H8 VDDCORE (power), H9 VDDCORE (power), H10 VDDCORE (power), H11 VSS (power), H12 VDDQ_DDR (power), H14 VSS (power), J2 VBAT (power), J4 VSS_PLL (power), J5 VDD_PLL (power), J6 VDDCPU (power), J7 VSS (power), J8 VDDCORE (power), J9 VSS (power), J10 VDDCORE (power), J11 VSS (power), J12 VDDQ_DDR (power), J13 VDDCORE (power), K3 VSS (power), K6 VDD (power), K7 VSS (power), K8 VDDCORE (power), K9 VDDCORE (power), K10 VDDCORE (power), K11 VSS (power), K12 VDDQ_DDR (power), L6 VDD (power), L7 VSS (power), L8 VSS (power), L9 VSS (power), L10 VSS (power), L11 VSS (power), L12 VDDQ_DDR (power), M4 VDD_ANA (power), M5 VSS_ANA (power), M6 VDD (power), M7 VDD (power), M8 VDD (power), M9 VDD (power), M10 VDD (power), M11 VDD (power), M12 VDDQ_DDR (power), M15 VSS (power), N4 VSS (power), N7 VSSA (power), N10 VSS_USBHS (power), N11 VDDA1V1_REG (power), N12 VDDQ_DDR (power), P6 VREF- (power), P7 VDDA (power), P10 VDD3V3_USBHS (power), P11 VSS (power), P13 VSS_PLL2 (power), R5 VSS (power), R6 VREF+ (power), R8 VSS (power), R9 VDD (power), R11 VDDA1V8_REG (power), R13 VDD_PLL2 (power), U1 VSS (power), U17 VSS (power)
part B text: 2 of 2
part C text: 3 of 3
part D text: 4 of 4

## SW2
designator SW?
Switch button 2 pin
footprint SW1-SMD
pins: 1, 2

## Test Point
designator TP1  (no BOM)
Test Point; Solder: NF
footprint Testpoint_50
footprint Testpoint_60
footprint Testpoint_70
footprint Testpoint_80
footprint Testpoint_TH_D130H80
footprint TP_1mm_SMD
pins: 1

## TRA1223
designator Q?, comment value BSS138N  (hidden comment: Transistor MOS-N GSD)
Transistor MOS; Manufacturer 1: Infineon Technologies; Manufacturer Part Number 1: BSS138NH6327XTSA2; MCHP-ID: TRA1223; Description_: TRANS FET N-CH BSS138N 60V 230mA SOT23-3; Dev Tools Status: Production; Type: FET; Current: 230mA; Drain to Source Voltage: 60V; Gate to Source Voltage: 20V; Power: 0.36W; Owner: Dragos Danaila; Populated: YES; Revision: 1; Symbol: Transistor MOS-N GSD; Status: MCL Design; Package: SOT23-3; ComponentLink1URL: https://chn-vm-apps.microchip.com/mchprepo/parts/Datasheets/Infineon-BSS138N-DS-v02_86-en.pdf; ComponentLink1Description: SVN Datasheet; ComponentLink2URL: C:\ALTIUM_WORK\00001_MCHP-CDB\Datasheets\Infineon-BSS138N-DS-v02_86-en.pdf; ComponentLink2Description: Local Datasheet; ComponentLink3URL: C:\ALTIUM_WORK\00001_MCHP-CDB\Library\LibraryRefs\Transistor MOS-N GSD.SchLib; ComponentLink3Description: Open Symbol; ComponentLink4URL: C:\ALTIUM_WORK\00001_MCHP-CDB\Library\Footprints\SOT-23-3.PcbLib; ComponentLink4Description: Open Footprint; ComponentLink5Description: Open Footprint 2; ComponentLink6Description: Open Footprint 3; ComponentLink7Description: Open Footprint 4; Operating Temperature: -55C to +150C; Category: Transistor; Voltage: 60V; Supplier 1: Digi-Key; Supplier Part Number 1: BSS138NH6327XTSA2CT-ND; Quantity Override: 1
footprint SOT-23-3
pins: 1 G, 2 S, 3 D

## USBLC6-2SC6
designator U?
17V Clamp 5A (8/20Âµs) Ipp Tvs Diode Surface Mount SOT-23-6
footprint SOT95P280X145-6N
pins: 1 I/O1_IN (io), 2 GND (power), 3 I/O2_IN (io), 4 I/O2_OUT (io), 5 VBUS (power), 6 I/O1_OUT (io)

## XO
designator *